# Altium footprint library SOT-23-5.PcbLib: 1 footprints
Each footprint in its own frame and in the unit in brackets; x right, y up, seen from the top. Pads: shape width x height; smd on the part's side, far side on the other; paste and mask are expansions set on the pad; w line width, h text height; cw(c..) or ccw(c..) is an arc to the next point about the centre after c.
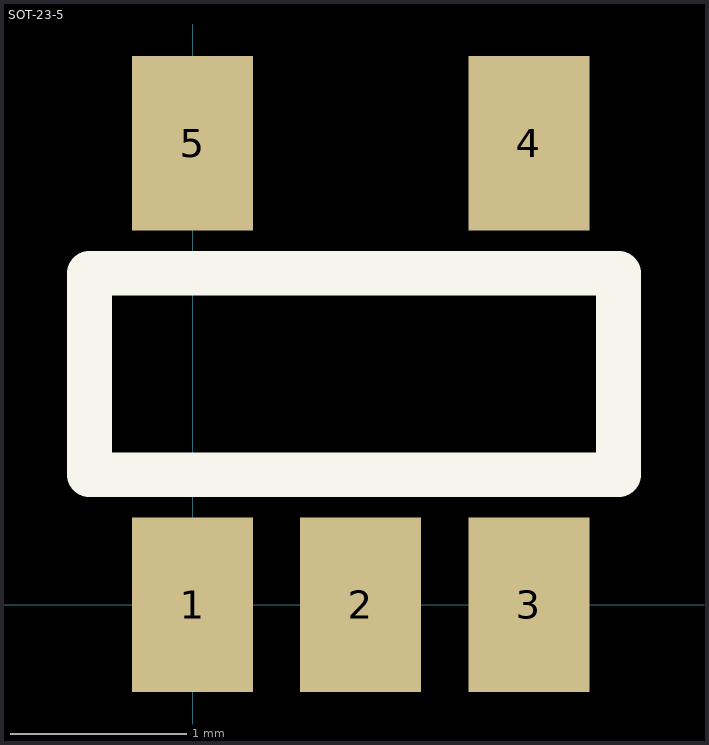
[diagram p0: the footprint, top view; thin cyan lines are the x and y axes]

## SOT-23-5 [mil]
height 120
pads (5):
  rect 27x39 smd: 1(0,0) 2(37.5,0) 3(75,0) 4(75,103) 5(0,103)
TopOverlay:
  lines w10: -23,29 -23,74 95,74 95,29 -23,29
Mechanical4:
  text ".044" at 0,0 h1
3D body: height 39.97, standoff -3.34, extent -21.75,1.78 96.37,100.21